# Altium schematic symbol library MINIBLDC.SCHLIB: 26 symbols
Pins are listed as number, name and electrical type; pins without a type are passive.

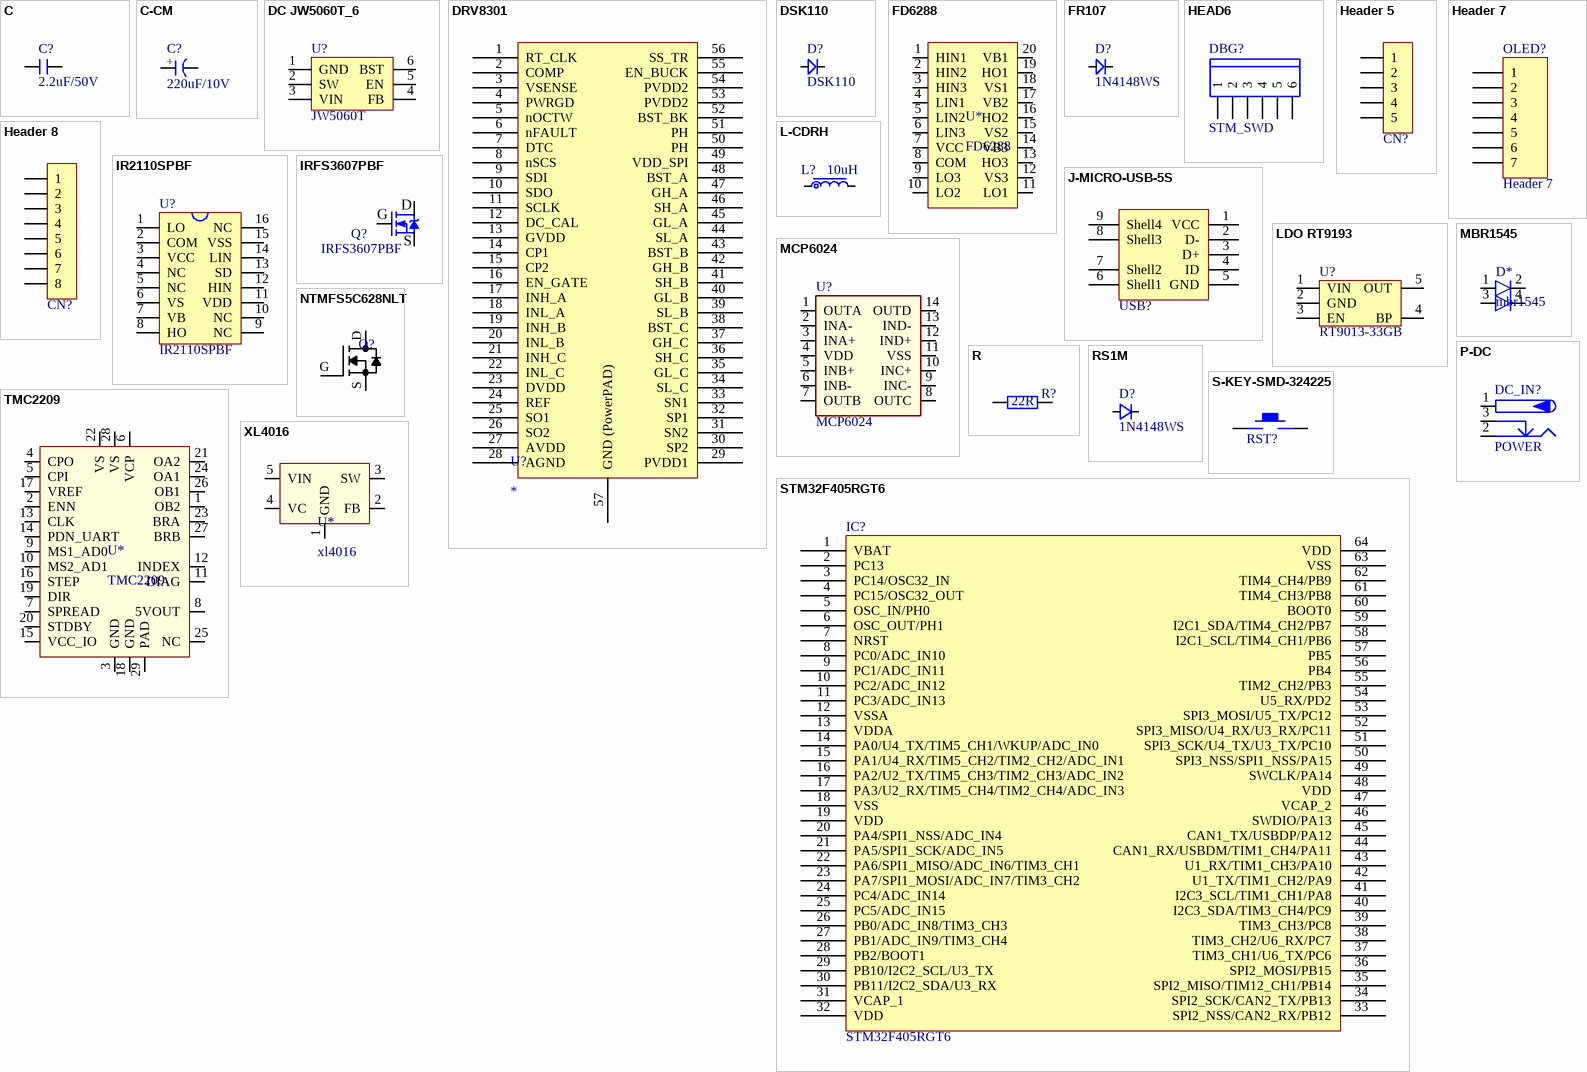
[diagram p0: symbols C to XL4016]

## C
designator C?, comment 2.2uF/50V
无极性贴片电容; 版权归属: 源创客; BOM名称: 无极性贴片电容; 学习资源: www.ooocke.com
footprint C 0603_L (无极性贴片电容)
footprint C 0805_L (无极性贴片电容)
footprint C 1206_L (无极性贴片电容)
pins: 1, 2

## C-CM
designator C?, comment 220uF/10V
贴片电解电容; 版权归属: 源创客; BOM名称: 贴片电解电容; 学习资源: www.ooocke.com
footprint CM A(3*5.4) (贴片电解电容，直径3mm，高5.4mm)
footprint CM B(4*5.4) (贴片电解电容，直径4mm，高5.4mm)
footprint CM C(5*5.4) (贴片电解电容，直径5mm，高5.4mm)
footprint CM D(6.3*5.4) (贴片电解电容，直径6.3mm，高5.4mm)
footprint CM D(6.3*7.7) (贴片电解电容，直径6.3mm，高7.7mm)
footprint CM E(8*6.2) (贴片电解电容，直径8mm，高6.2mm)
footprint CM E(8*10.2) (贴片电解电容，直径8mm，高10.2mm)
footprint CM F(10*10.2) (贴片电解电容，直径10mm，高10.2mm)
footprint CM G(12.5*13.5) (贴片电解电容，直径12.5mm，高13.5mm)
footprint CM G(12.5*16) (贴片电解电容，直径12.5mm，高16mm)
footprint CM H(16*16.5) (贴片电解电容，直径16mm，高16.5mm)
pins: 1 A, 2 K
text: +

## DC JW5060T_6
designator U?, comment JW5060T
DC降压芯片
footprint SOT23-6L (3x1.6x1.1mm(长宽高))
pins: 1 GND, 2 SW, 3 VIN, 4 FB, 5 EN, 6 BST

## DRV8301
designator U?
MOTOR DRIVER, 3PH, 56HTSSOP
footprint TSSOP56
pins: 1 RT_CLK, 2 COMP, 3 VSENSE, 4 PWRGD, 5 nOCTW, 6 nFAULT, 7 DTC, 8 nSCS, 9 SDI, 10 SDO, 11 SCLK, 12 DC_CAL, 13 GVDD, 14 CP1, 15 CP2, 16 EN_GATE, 17 INH_A, 18 INL_A, 19 INH_B, 20 INL_B, 21 INH_C, 22 INL_C, 23 DVDD, 24 REF, 25 SO1, 26 SO2, 27 AVDD, 28 AGND, 29 PVDD1, 30 SP2, 31 SN2, 32 SP1, 33 SN1, 34 SL_C, 35 GL_C, 36 SH_C, 37 GH_C, 38 BST_C, 39 SL_B, 40 GL_B, 41 SH_B, 42 GH_B, 43 BST_B, 44 SL_A, 45 GL_A, 46 SH_A, 47 GH_A, 48 BST_A, 49 VDD_SPI, 50 PH, 51 PH, 52 BST_BK, 53 PVDD2, 54 PVDD2, 55 EN_BUCK, 56 SS_TR, 57 GND (PowerPAD)

## DSK110
designator D?
通用二极管 100V-1A; BOM名称: 快恢复二极管; 版权归属: 源创客; 属性: 700V/1A
footprint SOD-123F (2.7x1.6X1.1mm（长宽高，不包括引脚）)
pins: 1 A, 2 K

## FD6288
designator U*
三相半桥驱动器
footprint TSSOP20_L (6.5*6.4*1（长宽高）)
pins: 1 HIN1, 2 HIN2, 3 HIN3, 4 LIN1, 5 LIN2, 6 LIN3, 7 VCC, 8 COM, 9 LO3, 10 LO2, 11 LO1, 12 VS3, 13 HO3, 14 VB3, 15 VS2, 16 HO2, 17 VB2, 18 VS1, 19 HO1, 20 VB1

## FR107
designator D?, comment 1N4148WS
通用二极管 700V-1A; BOM名称: 快恢复二极管; 版权归属: 源创客; 属性: 700V/1A
footprint SOD-123 (2.7x1.6X1.1mm（长宽高，不包括引脚）)
footprint SOD-323
pins: 1 A, 2 K

## HEAD6
designator DBG?, comment STM_SWD
下载调试口
footprint SH1.0_6P
pins: 1, 2, 3, 4, 5, 6

## Header 5
designator CN?, comment HDR-1X5  (value not drawn)
5P接插件; 版权归属: 源创客; BOM名称: 5P接插件; 学习资源: www.ooocke.com
footprint HDR-1X5_H (弯脚排针，5脚)
footprint HDR-1X5 (排针，5脚)
footprint HDR-1X5_M (排母，5脚)
footprint XH2.54-5P (接插件，5P)
footprint VH3.96-5P (接插件，25V/5A)
footprint HDR-1X5_Y (圆孔排母，5脚)
footprint KF2510-5P (接插件/2A)
footprint VH3.96-5P_H (接插件，25V/5A)
footprint XH2.54-5P_H (接插件，5P)
footprint KF301-5P (可拼接端子/6A)
footprint KF2EDGK5.0-5P (直列插拔式端子)
footprint PH2.0 D-L-5P (接插件/1A)
footprint PH2.0 D-W-5P (接插件/1A)
footprint KF2EDGK5.0-5P_H (弯角插拔式端子)
footprint KF7620-5P (38.1*12*12mm(长宽高))
footprint KF350-5P (可拼接端子/10A)
footprint KF128-3.81-5P (螺钉式接线端子，脚距3.81mm)
footprint KF128-5.08-5P (螺钉式接线端子，脚距5.08mm)
footprint PH2.0 S-W-5P (长：14mm，宽：7.6mm，高：5.5mm)
footprint KF2EDGK5.08-5P (直列插拔式端子)
footprint KF2EDGK5.08-5P_H (弯角插拔式端子)
footprint HDR2.54 S-W-5P (5P卧式贴片排针2.54)
footprint HDR2.54 S-W-5P_M (5P卧式贴片排母2.54)
footprint SH1.0 S-W-5P (SH1.0MM间距卧贴连接座子)
footprint HDR2.0 -1X5
pins: 1, 2, 3, 4, 5

## Header 7
designator OLED?
Header, 7-Pin; LatestRevisionDate: 17-Jul-2002; LatestRevisionNote: Re-released for DXP Platform.; Publisher: Altium Limited
signal-integrity model Connector
footprint HDR2.54-M-LI-7P (排母，7脚)
pins: 1, 2, 3, 4, 5, 6, 7

## Header 8
designator CN?, comment HDR-1X8  (value not drawn)
8P接插件; 版权归属: 源创客; BOM名称: 8P接插件; 学习资源: www.ooocke.com
footprint HDR2.54-LI-8P (排针，8脚)
pins: 1, 2, 3, 4, 5, 6, 7, 8

## IR2110SPBF
designator U?
半桥驱动 500V,10-20V  Ton/off=120ns&94ns MT=10nS
footprint SOP16W_L (10.3*10.3*2.6mm（长宽高）)
footprint SOP16W_N (10.3*10.3*2.6mm（长宽高）)
footprint SOP16W_M (10.3*10.3*2.6mm（长宽高）)
pins: 1 LO, 2 COM, 3 VCC, 4 NC, 5 NC, 6 VS, 7 VB, 8 HO, 9 NC, 10 NC, 11 VDD, 12 HIN, 13 SD, 14 LIN, 15 VSS, 16 NC

## IRFS3607PBF
designator Q?
NMOS 75V+80A 7.4mΩ; BOM名称: N沟场效应管; 版权归属: 源创客; 学习资源: www.ooocke.com
footprint TO263-3B (263，3脚晶体管)
footprint TO252 (252晶体管)
pins: 1 G, 2 D, 3 S

## J-MICRO-USB-5S
designator USB?, comment MICRO-USB  (value not drawn)
Micro USB 5.9有柱脚长1.25加长针
footprint USB-MICRO_B (micro型USB ，5.9*8.2*2.5mm)
pins: 1 VCC, 2 D-, 3 D+, 4 ID, 5 GND, 6 Shell1, 7 Shell2, 8 Shell3, 9 Shell4

## L-CDRH
designator L?, comment 10uH
功率屏蔽电感; 版权归属: 源创客; BOM名称: 功率屏蔽电感; 学习资源: www.ooocke.com
footprint CDRH73 (7.3*7.3*3.4mm（长宽高）)
footprint CDRH74 (7.3*7.3*4.5mm（长宽高）)
footprint CDRH124 (12*12*4.5mm（长宽高）)
footprint CDRH125 (12*12*5mm（长宽高）)
footprint CDRH127 (12*12*8mm（长宽高）)
footprint CDRH129 (12*12*9.5mm（长宽高）)
footprint L-SMD-0420 (一体化成型电感 4*4.5*2mm（长宽高）)
footprint L-SMD-0630 (一体化成型电感)
pins: 1, 2

## LDO RT9193
designator U?, comment RT9013-33GB
LDO; BOM名称: 稳压芯片; 版权归属: 源创客; 学习资源: www.ooocke.com
footprint SOT23-5L (3x1.6x1.1mm(长宽高))
footprint SOT23-5N (3x1.6x1.1mm(长宽高))
footprint SOT23-5M (3x1.6x1.1mm(长宽高))
pins: 1 VIN, 2 GND, 3 EN, 4 BP, 5 OUT

## MBR1545
designator D*, comment mbr1545
footprint TO220_B
pins: 1 A, 2 K, 3 A, 4 K

## MCP6024
designator U?
运放
footprint SOP14_L (8.7*6.2*1.8mm（长宽高）)
pins: 1 OUTA, 2 INA-, 3 INA+, 4 VDD, 5 INB+, 6 INB-, 7 OUTB, 8 OUTC, 9 INC-, 10 INC+, 11 VSS, 12 IND+, 13 IND-, 14 OUTD

## NTMFS5C628NLT
designator Q?  (value not drawn)
MOSFET N-CH 60V SO8FL; Manufacturer: ON Semiconductor; Manufacturer Part Number: NTMFS5C628NLT1G; FET Type: N-Channel; Drive Voltage (Max Rds On,  Min Rds On): 4.5V, 10V; Vgs(th) (Max) @ Id: 2V @ 135µA; Gate Charge (Qg) (Max) @ Vgs: 52nC @ 10V; Input Capacitance (Ciss) (Max) @ Vds: 3600pF @ 25V; Vgs (Max): ±20V; Power Dissipation (Max): 3.7W (Ta), 110W (Tc); Rds On (Max) @ Id, Vgs: 2.4 mOhm @ 50A, 10V; Supplier 1: Digi-Key; Supplier Part Number 1: NTMFS5C628NLT1GOSCT-ND; RoHS: RoHS Compliant; Category: Discrete Semiconductor Products; Stock: 1490; Pricing 1: 1=1.8, 10=1.627, 100=1.3078, 500=1.01716 (USD); Packaging: Cut Tape (CT); Part Status: Active; Technology: MOSFET (Metal Oxide); Current - Continuous Drain (Id) @ 25°C: -; FET Feature: -; Operating Temperature: -55°C ~ 175°C (TJ); Mounting Type: Surface Mount; Supplier Device Package: 5-DFN (5x6) (8-SOFL); Package / Case: 8-PowerTDFN; ComponentLink1URL: http://www.onsemi.com/pub/Collateral/NTMFS5C628NL-D.PDF; ComponentLink1Description: http://www.onsemi.com/pub/Collateral/NTMFS5C628NL-D.PDF; Supplier 2: Digi-Key; Supplier Part Number 2: NTMFS5C628NLT1GOSTR-ND; Pricing 2: 1500=0.81823 (USD)
footprint SO_8FL_DFN5
pins: D, G, S

## P-DC
designator DC_IN?, comment POWER
低压电源接口; BOM名称: DC电源接口; 版权归属: 源创客; 学习资源: www.ooocke.com
footprint DC-012 (5.5*2.1)
footprint DC-005 (5.5*2.1mm，DC30V,2.5A)
footprint DC-002 (3.5*1.1mm,)
footprint DC-003 (3.5*1.1mm)
footprint DC-003A (3.5*1.1mm)
footprint DC-050 (5.5*2.1)
pins: 1 (power), 2 (power), 3 (power)

## R
designator R?, comment 22R
贴片电阻; 版权归属: 源创客; BOM名称: 贴片电阻; 学习资源: www.ooocke.com
footprint R 0603_L (1/10W贴片电阻)
footprint R 2512_L (1W贴片电阻)
footprint R 0805_L (1/8W贴片电阻)
pins: 1, 2

## RS1M
designator D?, comment 1N4148WS
通用二极管 1000V-1A; BOM名称: 肖特基二极管; 版权归属: 源创客; 属性: 40V/1A; 学习资源: www.ooocke.com
footprint SMA (4.5x2.6*2.2mm（长宽高，不包括引脚）)
footprint SOD-123 (2.7x1.6X1.1mm（长宽高，不包括引脚）)
footprint SOD-123F (2.7x1.6X1.1mm（长宽高，不包括引脚）)
footprint SOD-323 (1.8x1.3X0.9mm（长宽高，不包括引脚）)
footprint SOD-523 (1.2x0.8X0.6mm（长宽高，不包括引脚）)
pins: 1 A, 2 K

## S-KEY-SMD-324225
designator RST?, comment KEY-SMD  (value not drawn)
KEY,SMD,324225
footprint TSW SMD-3*6*2.5
pins: 1, 2

## STM32F405RGT6
designator IC?
Flaah:256/RAM:48/IO:51
footprint LQFP64 10X10_L (64脚，体宽10x10mm，脚距0.5mm)
footprint LQFP64 10X10_M (64脚，体宽10x10mm，脚距0.5mm)
footprint LQFP64 10X10_N (64脚，体宽10x10mm，脚距0.5mm)
pins: 1 VBAT, 2 PC13, 3 PC14/OSC32_IN, 4 PC15/OSC32_OUT, 5 OSC_IN/PH0, 6 OSC_OUT/PH1, 7 NRST, 8 PC0/ADC_IN10, 9 PC1/ADC_IN11, 10 PC2/ADC_IN12, 11 PC3/ADC_IN13, 12 VSSA, 13 VDDA, 14 PA0/U4_TX/TIM5_CH1/WKUP/ADC_IN0, 15 PA1/U4_RX/TIM5_CH2/TIM2_CH2/ADC_IN1, 16 PA2/U2_TX/TIM5_CH3/TIM2_CH3/ADC_IN2, 17 PA3/U2_RX/TIM5_CH4/TIM2_CH4/ADC_IN3, 18 VSS, 19 VDD, 20 PA4/SPI1_NSS/ADC_IN4, 21 PA5/SPI1_SCK/ADC_IN5, 22 PA6/SPI1_MISO/ADC_IN6/TIM3_CH1, 23 PA7/SPI1_MOSI/ADC_IN7/TIM3_CH2, 24 PC4/ADC_IN14, 25 PC5/ADC_IN15, 26 PB0/ADC_IN8/TIM3_CH3, 27 PB1/ADC_IN9/TIM3_CH4, 28 PB2/BOOT1, 29 PB10/I2C2_SCL/U3_TX, 30 PB11/I2C2_SDA/U3_RX, 31 VCAP_1, 32 VDD, 33 SPI2_NSS/CAN2_RX/PB12, 34 SPI2_SCK/CAN2_TX/PB13, 35 SPI2_MISO/TIM12_CH1/PB14, 36 SPI2_MOSI/PB15, 37 TIM3_CH1/U6_TX/PC6, 38 TIM3_CH2/U6_RX/PC7, 39 TIM3_CH3/PC8, 40 I2C3_SDA/TIM3_CH4/PC9, 41 I2C3_SCL/TIM1_CH1/PA8, 42 U1_TX/TIM1_CH2/PA9, 43 U1_RX/TIM1_CH3/PA10, 44 CAN1_RX/USBDM/TIM1_CH4/PA11, 45 CAN1_TX/USBDP/PA12, 46 SWDIO/PA13, 47 VCAP_2, 48 VDD, 49 SWCLK/PA14, 50 SPI3_NSS/SPI1_NSS/PA15, 51 SPI3_SCK/U4_TX/U3_TX/PC10, 52 SPI3_MISO/U4_RX/U3_RX/PC11, 53 SPI3_MOSI/U5_TX/PC12, 54 U5_RX/PD2, 55 TIM2_CH2/PB3, 56 PB4, 57 PB5, 58 I2C1_SCL/TIM4_CH1/PB6, 59 I2C1_SDA/TIM4_CH2/PB7, 60 BOOT0, 61 TIM4_CH3/PB8, 62 TIM4_CH4/PB9, 63 VSS, 64 VDD

## TMC2209
designator U*
步进电机驱动芯片
footprint QFN28_5_5_L
pins: 1 OB2, 2 ENN, 3 GND, 4 CPO, 5 CPI, 6 VCP, 7 SPREAD, 8 5VOUT, 9 MS1_AD0, 10 MS2_AD1, 11 DIAG, 12 INDEX, 13 CLK, 14 PDN_UART, 15 VCC_IO, 16 STEP, 17 VREF, 18 GND, 19 DIR, 20 STDBY, 21 OA2, 22 VS, 23 BRA, 24 OA1, 25 NC, 26 OB1, 27 BRB, 28 VS, 29 PAD

## XL4016
designator U*, comment xl4016
footprint TO220-5A (220，5脚晶体管)
footprint TO220-5C (220，5脚晶体管)
pins: 1 GND, 2 FB, 3 SW, 4 VC, 5 VIN